# Altium integrated library lib_jst.IntLib: 2 symbols
Pins are listed as number, name and electrical type; pins without a type are passive.

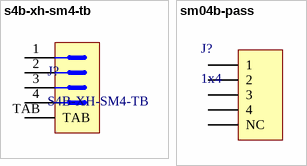
[diagram p0: symbols s4b-xh-sm4-tb to sm04b-pass]

## s4b-xh-sm4-tb
designator J?, comment S4B-XH-SM4-TB
2.5mm pitch/Disconnectable Crimp style connectors; ComponentLink1Description: datasheet; ComponentLink1URL: http://www.jst-mfg.com/product/pdf/eng/eXH.pdf
footprint S4B-XH-SM4-TB
pins: 1, 2, 3, 4, TAB

## sm04b-pass
designator J?, comment 1x4
2.0mm pitch/Wire-to-board (Crimp style/IDC) / Wire-to-wire (Crimp style/IDC); ComponentLink1Description: Datasheet; ComponentLink1URL: http://www.jst-mfg.com/product/pdf/eng/ePA-F.pdf; #digikey: *; #mouser: *
footprint sm04b-pass
pins: 1, 2, 3, 4, ANCHOR NC